# EAGLE library part USB4120-03-C (library USB4120-03-C)
USB Connectors USB C Rec 3u" vert 16P SMT & TH stakes pegs T+R+C H = 9.25 Source: Datasheet <https://gct.co/connector/usb4120>
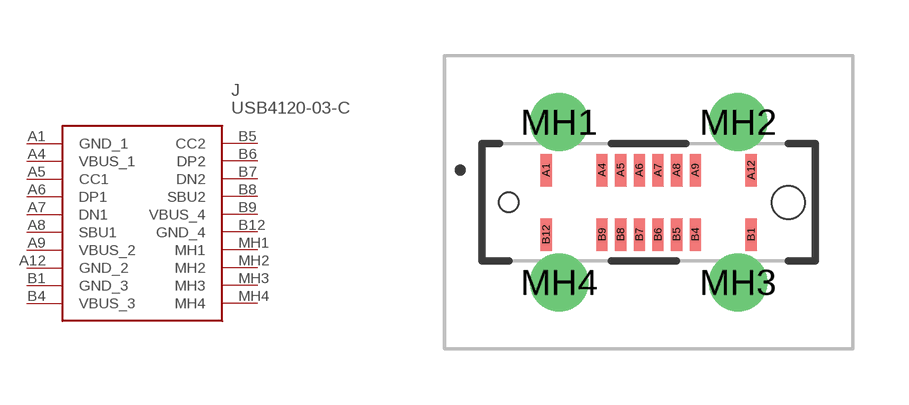
[diagram p0: symbol with the pads of USB412003C; footprint USB412003C]

Designator prefix J

## USB4120-03-C (Description: USB Connectors USB C Rec 3u" vert 16P SMT & TH stakes pegs T+R+C H = 9.25; Height: 6.75mm; Manufacturer_Name: GCT (GLOBAL CONNECTOR TECHNOLOGY); Manufacturer_Part_Number: USB4120-03-C; Mouser_Part_Number: 640-USB4120-03-C; Mouser_Price-Stock: https://www.mouser.co.uk/ProductDetail/GCT/USB4120-03-C?qs=KUoIvG%2F9IlZaAd13sVDhkQ%3D%3D)  [USB412003C]
A1  GND_1
A4  VBUS_1
A5  CC1
A6  DP1
A7  DN1
A8  SBU1
A9  VBUS_2
A12  GND_2
B1  GND_3
B4  VBUS_3
B5  CC2
B6  DP2
B7  DN2
B8  SBU2
B9  VBUS_4
B12  GND_4
MH1  MH1
MH2  MH2
MH3  MH3
MH4  MH4

## Footprint USB412003C (pad centres in mm)
USB4120-03-C
smd 0.3 x 0.87: A1 -2.75,0.865; A4 -1.25,0.865; A5 -0.75,0.865; A6 -0.25,0.865; A7 0.25,0.865; A8 0.75,0.865; A9 1.25,0.865; A12 2.75,0.865; B1 2.75,-0.865; B4 1.25,-0.865; B5 0.75,-0.865; B6 0.25,-0.865; B7 -0.25,-0.865; B8 -0.75,-0.865; B9 -1.25,-0.865; B12 -2.75,-0.865
drill 1.04 pad 1.46: MH1 -2.4,2.15; MH2 2.4,2.15; MH3 2.4,-2.15; MH4 -2.4,-2.15
hole 0.52 at -3.75,0
hole 0.89 at 3.75,0